# Altium schematic symbol library DIODE,Schottky,10V,3A,SMD.Schlib: 1 symbol
Pins are listed as number, name and electrical type; pins without a type are passive.

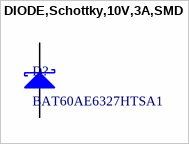
[diagram p0: symbol DIODE,Schottky,10V,3A,SMD]

## DIODE,Schottky,10V,3A,SMD
designator D?, comment BAT60AE6327HTSA1
Diode Schottky 10V 3A (DC) Surface Mount PG-SOD323-2
pins: 1 K, 2 A